# Altium footprint library LM2596S-ADJ.PcbLib: 1 footprints
Each footprint in its own frame and in the unit in brackets; x right, y up, seen from the top. Pads: shape width x height; smd on the part's side, far side on the other; paste and mask are expansions set on the pad; w line width, h text height; cw(c..) or ccw(c..) is an arc to the next point about the centre after c.
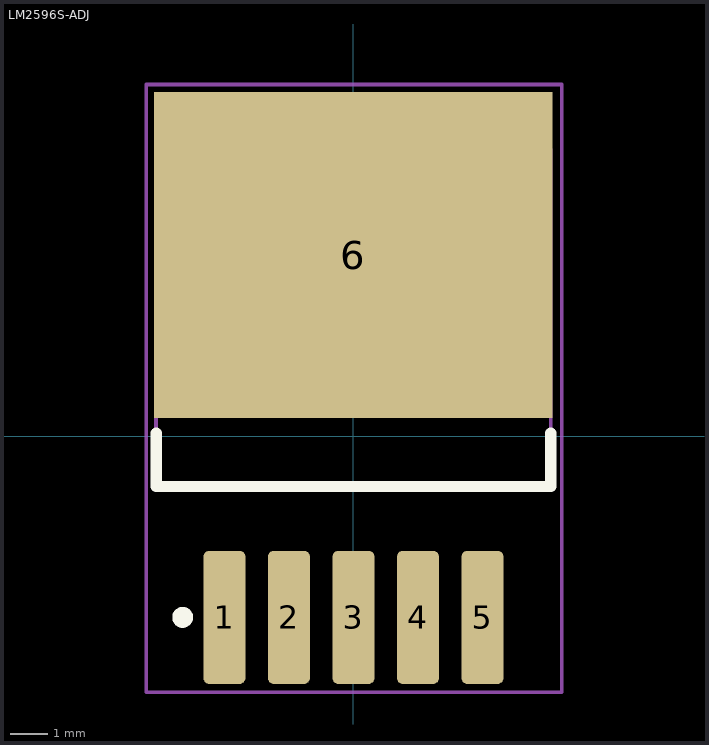
[diagram p0: the footprint, top view; thin cyan lines are the x and y axes]

## LM2596S-ADJ [mm]
pads (6):
  rrect25% 1.1x3.5 smd: 1(-3.4,-4.775) 2(-1.7,-4.775) 3(0,-4.775) 4(1.7,-4.775) 5(3.4,-4.775)
  rect 10.5x8.6 smd: 6(0,4.775)
Top Overlay:
  circle w0.3: c-4.5,-4.775 r0.125
  lines w0.3: -5.2,0.075 -5.2,-1.325 5.2,-1.325 5.2,0.075
Mechanical 1:
  lines w0.1: -5.461,-6.746 5.49,-6.746 5.49,9.271 -5.461,9.271 -5.461,-6.746 ; -5.2,-1.325 5.2,-1.325 5.2,7.565 -5.2,7.565 -5.2,-1.325
Mechanical 15:
  text "+" at -0.333,-0.5 h1
3D body "LM2596DS.step": height 4.5, standoff -0.08, extent -5,-4.831 5,7.911